# Altium footprint library lmh66xx.PCBLIB: 1 footprints
Each footprint in its own frame and in the unit in brackets; x right, y up, seen from the top. Pads: shape width x height; smd on the part's side, far side on the other; paste and mask are expansions set on the pad; w line width, h text height; cw(c..) or ccw(c..) is an arc to the next point about the centre after c.
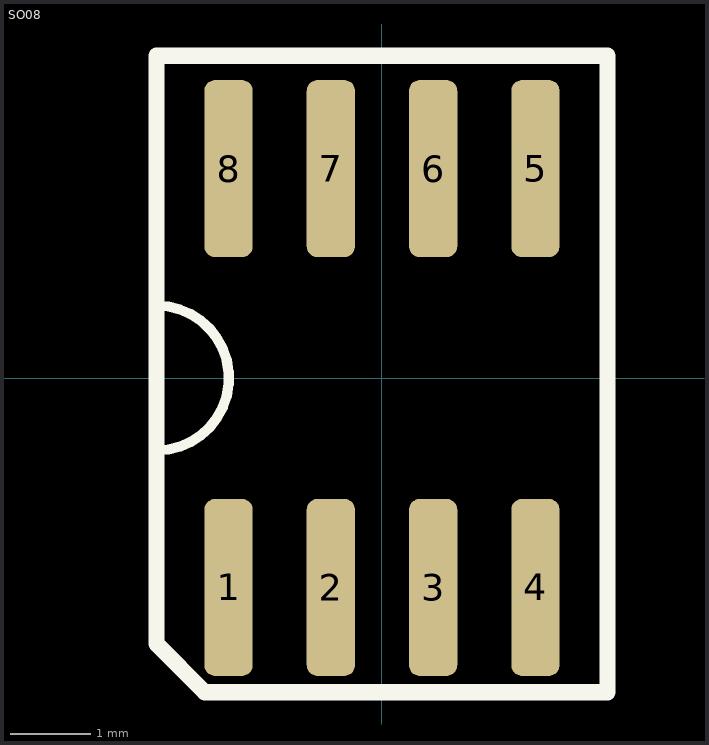
[diagram p0: the footprint, top view; thin cyan lines are the x and y axes]

## SO08 [mil]
pads (8):
  rrect45% 23.62x86.61 smd: 1(-75,-102.36) 2(-25,-102.36) 3(25,-102.36) 4(75,-102.36) 5(75,102.36) 6(25,102.36) 7(-25,102.36) 8(-75,102.36)
Top Overlay:
  lines w5: -110.24,-35.43 ccw(c-110.24,0) -110.24,35.43
  lines w8: -110.24,-129.92 -86.61,-153.54 110.24,-153.54 110.24,157.48 -110.24,157.48 -110.24,35.43 -110.24,-35.43 -110.24,-129.92
3D body: height 39.37, standoff 0, extent -90.81,-65 90.81,65